# Altium schematic symbol library RC0402FR-07100RL.SchLib: 1 symbol
Pins are listed as number, name and electrical type; pins without a type are passive.

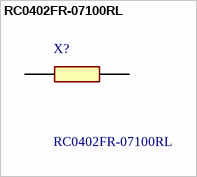
[diagram p0: symbol RC0402FR-07100RL]

## RC0402FR-07100RL
designator X?
ic; Manufacturer_Name: YAGEO; Geometry.Height: 0.4mm; Mouser Part Number: 603-RC0402FR-07100RL; Mouser Price/Stock: https://www.mouser.co.uk/ProductDetail/YAGEO/RC0402FR-07100RL?qs=V1yeUXFNrknwaJOOZ4yDtg%3D%3D; Manufacturer_Part_Number: RC0402FR-07100RL; Datasheet Link: https://www.yageo.com/upload/media/product/productsearch/datasheet/rchip/PYu-RC_Group_51_RoHS_L_10.pdf
footprint RESC1005X40N
pins: 1, 2